# Altium footprint library vias.PcbLib: 1 footprints
Each footprint in its own frame and in the unit in brackets; x right, y up, seen from the top. Pads: shape width x height; smd on the part's side, far side on the other; paste and mask are expansions set on the pad; w line width, h text height; cw(c..) or ccw(c..) is an arc to the next point about the centre after c.
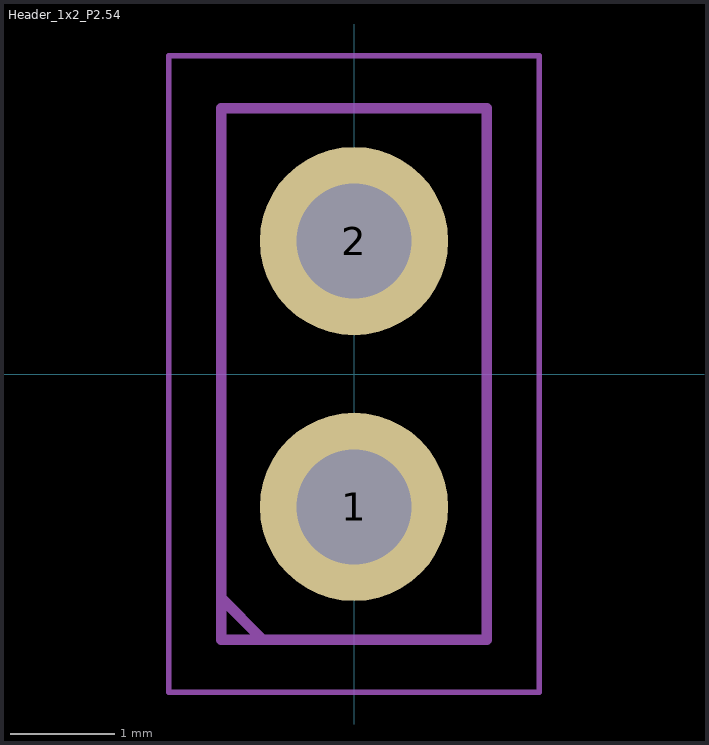
[diagram p0: the footprint, top view; thin cyan lines are the x and y axes]

## Header_1x2_P2.54 [mm] "2-position generic 2.54 mm single-row header; land pattern remains INFERRED and requires part-specific review"
pads (2):
  round 1.8 hole 1.1: 1(0,-1.27) 2(0,1.27)
Mechanical 13:
  lines w0.1: -1.27,-2.14 -0.87,-2.54 ; -1.27,-2.54 1.27,-2.54 1.27,2.54 -1.27,2.54 -1.27,-2.54
Mechanical 15:
  lines w0.05: -1.77,-3.04 1.77,-3.04 1.77,3.04 -1.77,3.04 -1.77,-3.04